# Altium schematic symbol library BJTNPN.Schlib: 2 symbols
Pins are listed as number, name and electrical type; pins without a type are passive.

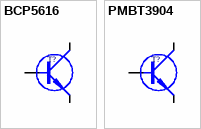
[diagram p0: symbols BCP5616 to PMBT3904]

## BCP5616
designator T?
pins: 1 B, 2 C (oc), 3 E (oe)
1 alternate drawing of the same symbol

## PMBT3904
designator T?
pins: 1 B, 2 E (oe), 3 C (oc)
1 alternate drawing of the same symbol